# Altium footprint library Compact Flash Reader2.PcbLib: 38 footprints (part 2 of 3)
Each footprint in its own frame and in the unit in brackets; x right, y up, seen from the top. Pads: shape width x height; smd on the part's side, far side on the other; paste and mask are expansions set on the pad; w line width, h text height; cw(c..) or ccw(c..) is an arc to the next point about the centre after c.
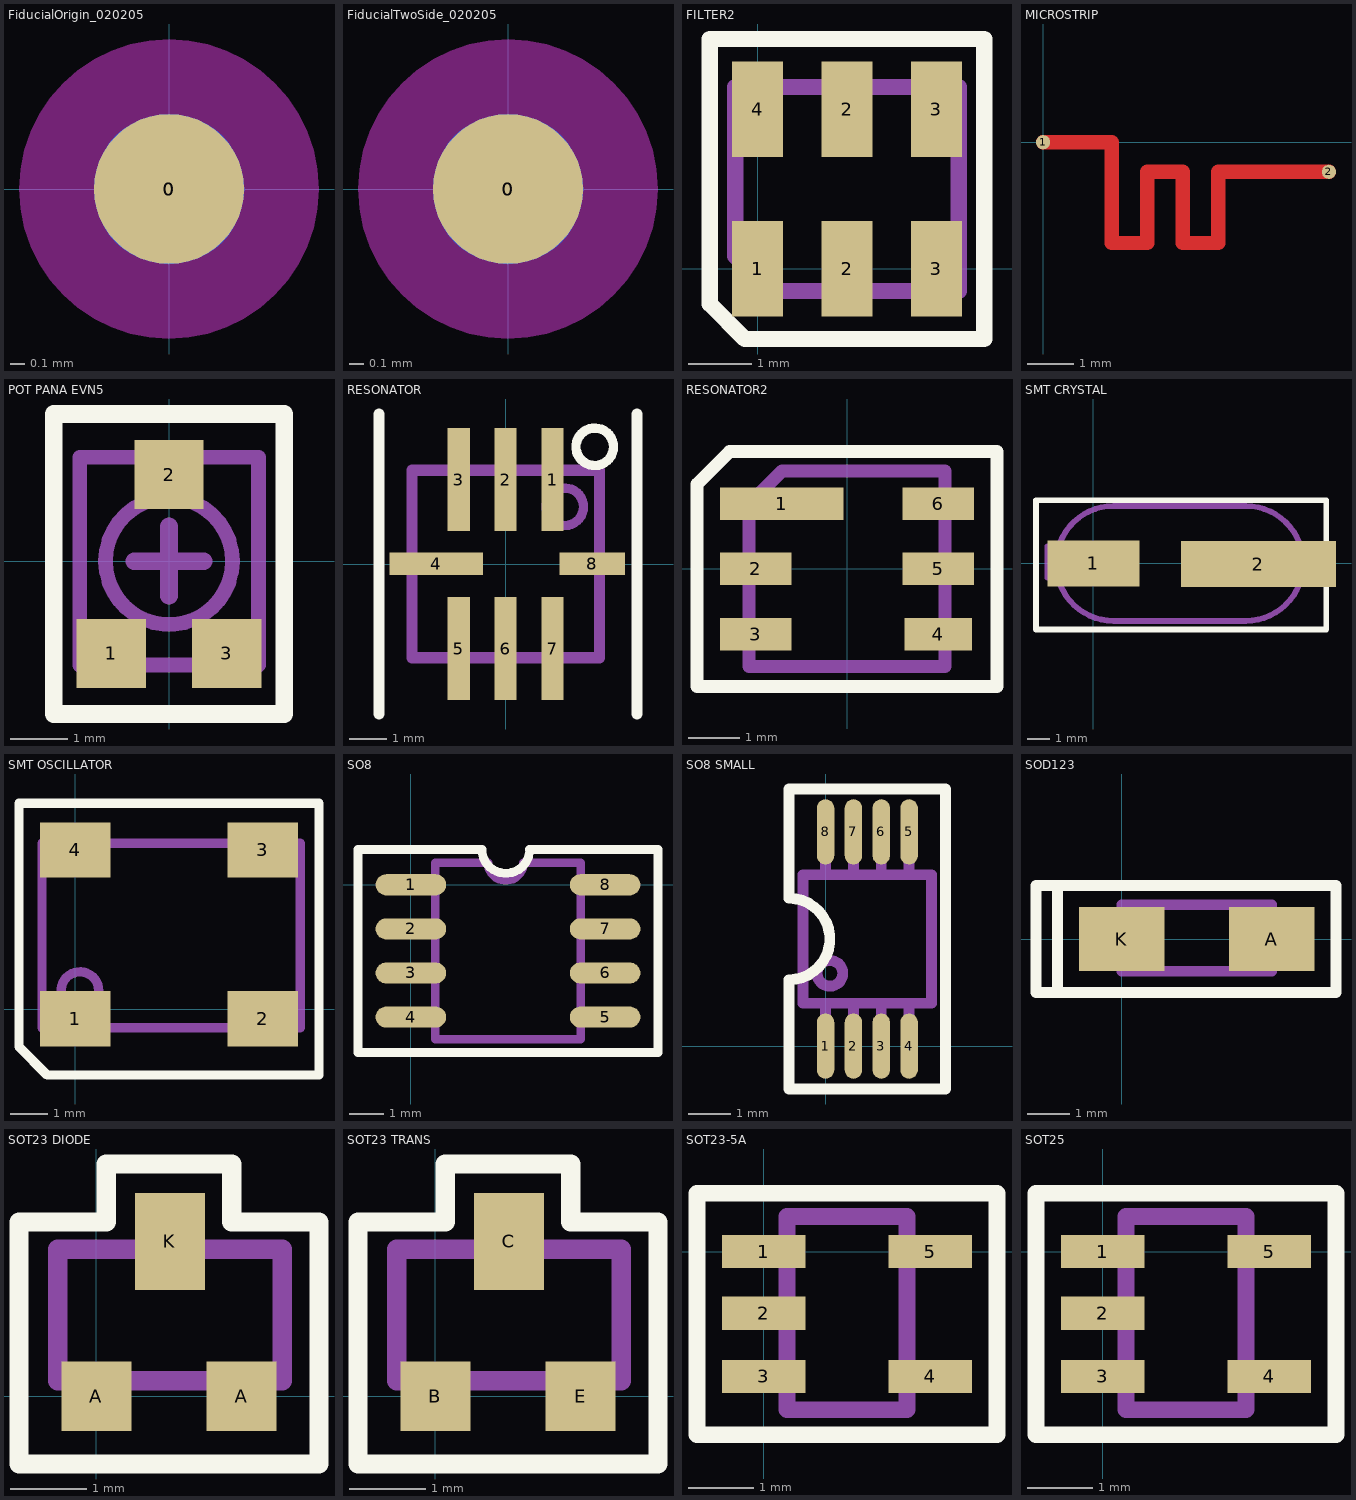
[diagram p1: the footprints below, top view; thin cyan lines are the x and y axes]

## FiducialOrigin_020205 [mil] "FEATURE SMT PCB"
height 50
pads (3):
  round 40 smd: 0(0,0)
  round 40 smd far side: 0(0,0)
  round 80 on Keep-Out: 0(0,0)

## FiducialTwoSide_020205 [mil] "FEATURE SMT PCB"
pads (3):
  round 40 smd: 0(0,0)
  round 40 smd far side: 0(0,0)
  round 80 on Keep-Out: 0(0,0)

## FILTER2 [mm]
pads (6):
  rect 0.8x1.5 smd: 1(0,0) 2(1.4,0) 2(1.4,2.5) 3(2.8,0) 3(2.8,2.5) 4(0,2.5)
Top Overlay:
  lines w0.254: -0.75,-0.55 -0.2,-1.1 3.55,-1.1 3.55,1.25 3.55,3.6 3,3.6 -0.75,3.6 -0.75,1.25 -0.75,-0.55
Mechanical 1:
  lines w0.254: 1.4,2.85 -0.35,2.85 ; -0.35,2.85 -0.35,0.2 0.2,-0.35 3.15,-0.35 3.15,2.85 -0.35,2.85

## MICROSTRIP [mil]
pads (2):
  round 12 smd: 1(0.06,0.06) 2(241.47,-24.94)
Top Layer:
  lines w12: 0.06,0.06 58,0.06 58,-84.94 88,-84.94 88,-24.94 118,-24.94 118,-29.94 118,-84.94 148,-84.94 148,-24.94 240,-24.94 241.47,-24.94

## POT PANA EVN5 [mm]
pads (3):
  rect 1.2x1.2 smd: 1(-1,-1.6) 2(0,1.5) 3(1,-1.6)
Top Overlay:
  lines w0.305: -2,-2.65 -2,2.55 0,2.55 2,2.55 2,-2.65 0,-2.65 -2,-2.65
Mechanical 1:
  circle w0.254: c0,0 r1.1
  lines w0.254: 0,1.8 -1.55,1.8 ; -1.55,1.8 1.55,1.8 1.55,-1.8 -1.55,-1.8 -1.55,1.8
  lines w0.305: -0.6,0 0,0 ; 0,-0.6 0,0 ; 0,0.6 0,0 ; 0.6,0 0,0

## RESONATOR [mm]
pads (8):
  rect 0.6x2.794 smd: 1(1.27,2.289) 2(0,2.289) 3(-1.27,2.289) 5(-1.27,-2.291) 6(0,-2.291) 7(1.27,-2.291)
  rect 2.54x0.6 smd: 4(-1.878,0.008)
  rect 1.778x0.6 smd: 8(2.343,0.008)
Top Overlay:
  circle w0.254: c2.413,3.175 r0.508
  lines w0.305: -3.429,-4.064 -3.429,4.064 ; 3.556,-4.064 3.556,0 3.556,4.064
Mechanical 1:
  circle w0.254: c1.6,1.549 r0.508
  lines w0.305: -2.54,-2.54 -2.54,2.54 2.54,2.54 2.54,0 2.54,-2.54 -2.54,-2.54

## RESONATOR2 [mil]
pads (6):
  rect 95x25 smd: 1(-50,50)
  rect 55x25 smd: 2(-70,0) 3(-70,-50) 5(70,0) 6(70,50)
  rect 52x25 smd: 4(70,-50)
Top Overlay:
  lines w10: -115,-90 0,-90 115,-90 115,50 115,90 0,90 -90,90 -115,65 -115,-50 -115,-90
Mechanical 1:
  lines w10: -75,-75 75,-75 75,75 0,75 -50,75 -75,50 -75,-75

## SMT CRYSTAL [mil]
pads (2):
  rect 160x80 smd: 1(0,0)
  rect 270x80 smd: 2(287,-1)
Top Overlay:
  lines w10: -100,-115 -100,110 405,110 405,-115 -100,-115
Mechanical 1:
  lines w10: -60,-25 -80,-25 -80,30 -60,30 ; 360,-25 380,-25 380,30 360,30 ; 35,-100 cw(c35,0) 35,100 265,100 cw(c265,0) 265,-100 35,-100

## SMT OSCILLATOR [mm]
pads (4):
  rect 1.9x1.5 smd: 1(0,-0.254) 2(5.08,-0.254) 3(5.08,4.318) 4(0,4.318)
Top Overlay:
  lines w0.254: -1.524,-1.016 -0.762,-1.778 0.127,-1.778 6.604,-1.778 6.604,5.334 6.604,5.588 -1.524,5.588 -1.524,5.334 -1.524,-1.016
Mechanical 1:
  circle w0.254: c0.127,0.508 r0.508
  lines w0.254: -0.9,-0.5 -0.9,4.5 6.1,4.5 6.1,-0.5 -0.9,-0.5

## SO8 [mil]
pads (8):
  oval 80x24 smd: 1(0,0) 2(0,-50) 3(0,-100) 4(0,-150) 5(220,-150) 6(220,-100) 7(220,-50) 8(220,0)
Top Overlay:
  lines w10: -60,-190 280,-190 280,40 134.54,40 cw(c107.5,40) 80.46,40 -60,40 -60,-190
Mechanical 1:
  lines w10: 27.5,-155 0,-155 0,-145 27.5,-145 ; 27.5,-105 0,-105 0,-95 27.5,-95 ; 27.5,-55 0,-55 0,-45 27.5,-45 ; 27.5,-5 0,-5 0,5 27.5,5 ; 192.5,-155 220,-155 220,-145 192.5,-145 ; 192.5,-105 220,-105 220,-95 192.5,-95 ; 192.5,-55 220,-55 220,-45 192.5,-45 ; 192.5,-5 220,-5 220,5 192.5,5 ; 27.5,-175 27.5,25 87.5,25 ccw(c107.5,25) 127.5,25 192.5,25 192.5,-175 27.5,-175

## SO8 SMALL [mil]
pads (8):
  oval 16x60 smd: 1(0,0) 2(25.59,0) 3(51.18,0) 4(76.77,0) 5(76.77,196.85) 6(51.18,196.85) 7(25.59,196.85) 8(0,196.85)
Top Overlay:
  lines w10: -33.46,-39.37 -33.46,61.02 ccw(c-33.46,98.43) -33.46,135.83 -33.46,236.22 74.8,236.22 110.24,236.22 110.24,153.54 110.24,-39.37 1.97,-39.37 -33.46,-39.37
Mechanical 1:
  circle w10: c3.94,66.93 r11.81
  lines w10: 0,0 0,39.37 ; 0,157.48 0,196.85 ; 25.59,0 25.59,39.37 ; 25.59,157.48 25.59,196.85 ; 51.18,0 51.18,39.37 ; 51.18,157.48 51.18,196.85 ; 76.77,0 76.77,39.37 ; 76.77,157.48 76.77,196.85 ; 97.44,98.43 97.44,157.48 ; 97.44,157.48 -20.67,157.48 -20.67,39.37 97.44,39.37 97.44,157.48

## SOD123 [mil]
pads (2):
  rect 80x60 smd: A(140,0) K(0,0)
Top Overlay:
  lines w10: -60,-50 -60,50 ; -80,-50 110,-50 200,-50 200,50 110,50 -80,50 -80,-50
Mechanical 1:
  lines w10: 30,-30 30,32 ; 0,-30 140,-30 140,32 0,32 0,-30

## SOT23 DIODE [mil]
pads (3):
  rect 36x36 smd: A(0,0) A(75,0)
  rect 36x50 smd: K(38,80)
Top Overlay:
  lines w10: -40,-35 115,-35 115,90 70,90 70,120 23,120 5,120 5,90 -40,90 -40,-35
Mechanical 1:
  lines w10: -10,8 -10,-8 10,-8 10,8 ; 30,76 30,94 46,94 46,76 ; 66,8 66,-8 84,-8 84,8 ; -20,8 96,8 96,76 -20,76 -20,8

## SOT23 TRANS [mil]
pads (3):
  rect 36x36 smd: B(0,0) E(75,0)
  rect 36x50 smd: C(38,80)
Top Overlay:
  lines w10: -40,-35 -40,90 5,90 5,120 23,120 70,120 70,90 115,90 115,-35 -40,-35
Mechanical 1:
  lines w10: -10,8 -10,-8 10,-8 10,8 ; 30,76 30,94 46,94 46,76 ; 66,8 66,-8 84,-8 84,8 ; -20,8 -20,76 96,76 96,8 -20,8

## SOT23-5A [mil]
pads (5):
  rect 50x20 smd: 1(0,0) 2(0,-37) 3(0,-75) 4(100,-75) 5(100,0)
Top Overlay:
  lines w10: -40,-110 140,-110 140,35 -40,35 -40,-75 -40,-110
Mechanical 1:
  lines w10: 14,-79 -8,-79 -8,-71 12,-71 14,-69 ; 14,-41 -8,-41 -8,-33 14,-33 ; 14,-3 -8,-3 -8,5 14,5 ; 86,-79 108,-79 108,-71 86,-71 ; 86,-3 108,-3 108,5 86,5 ; 14,-95 14,21 86,21 86,-95 14,-95

## SOT25 [mil]
pads (5):
  rect 50x20 smd: 1(0,0) 2(0,-37) 3(0,-75) 4(100,-75) 5(100,0)
Top Overlay:
  lines w10: -40,-110 -40,-75 -40,35 140,35 140,-110 -40,-110
Mechanical 1:
  lines w10: 14,-79 -8,-79 -8,-71 12,-71 14,-69 ; 14,-41 -8,-41 -8,-33 14,-33 ; 14,-3 -8,-3 -8,5 14,5 ; 86,-79 108,-79 108,-71 86,-71 ; 86,-3 108,-3 108,5 86,5 ; 14,-95 86,-95 86,21 14,21 14,-95